# Altium schematic symbol library M25Pxx.SchLib: 1 symbol
Pins are listed as number, name and electrical type; pins without a type are passive.

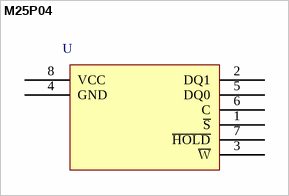
[diagram p0: symbol M25P04]

## M25P04
designator U  (value not drawn)
footprint SO8
pins: 1 ~{S}, 2 DQ1, 3 ~{W}, 4 GND, 5 DQ0, 6 C, 7 ~{HOLD}, 8 VCC